# EAGLE library part DUAL_MOSFET_NP (library gecko)
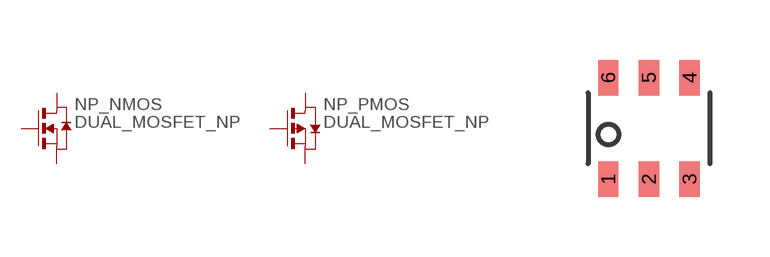
[diagram p6: symbol with the pads of TSOP-6; footprint TSOP-6]

Designator prefix NP; gates _NMOS=N_MOSFET _PMOS=P_MOSFET

## DUAL_MOSFET_NP  [TSOP-6]
1  _NMOS:G  pas
2  _PMOS:S  pas
3  _PMOS:G  pas
4  _PMOS:D  pas
5  _NMOS:S  pas
6  _NMOS:D  pas

## Footprint TSOP-6 (pad centres in mm)
smd 0.508 x 0.889: 1 -1.016,-1.27; 2 0,-1.27; 3 1.016,-1.27; 4 1.016,1.27; 5 0,1.27; 6 -1.016,1.27